# Altium schematic symbol library K78xx-500R3  正输出.SchLib: 1 symbol
Pins are listed as number, name and electrical type; pins without a type are passive.

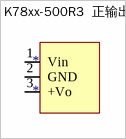
[diagram p0: symbol K78xx-500R3  正输出]

## K78xx-500R3  正输出
designator *
footprint K78xx-500R3 正输出
pins: 1 Vin, 2 GND, 3 +Vo